# EAGLE library part NEO-F10N-00B (library NEO-F10N-00B)
GNSS / GPS Modules u-blox F10 GNSS module Flash, TCXO, SAW, LNA LCC, 12x16 mm, 250 pcs/reel Source: Datasheet <https://content.u-blox.com/sites/default/files/documents/NEO-F10N_DataSheet_UBX-23002117.pdf>
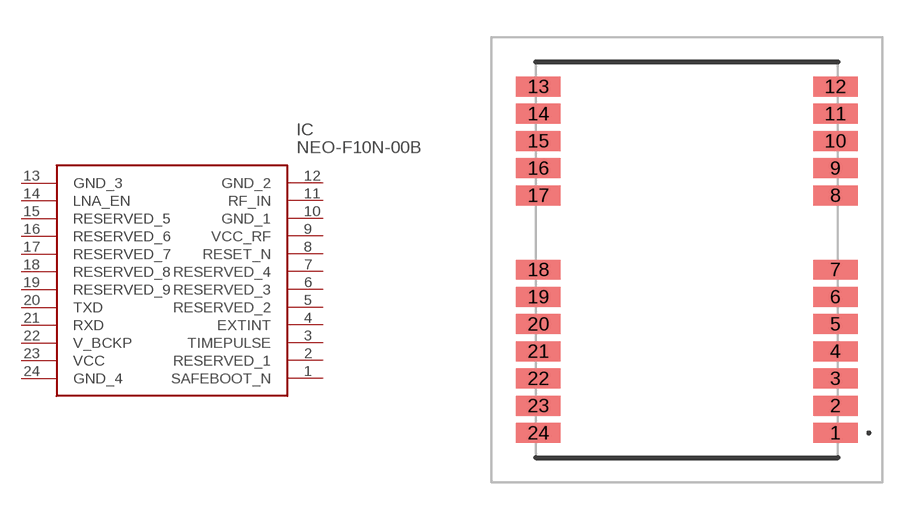
[diagram p0: symbol with the pads of NEOF10N00B; footprint NEOF10N00B]

Designator prefix IC

## NEO-F10N-00B (Description: GNSS / GPS Modules u-blox F10 GNSS module Flash, TCXO, SAW, LNA LCC, 12x16 mm, 250 pcs/reel; Height: 2.6mm; Manufacturer_Name: u-blox; Manufacturer_Part_Number: NEO-F10N-00B; Mouser_Part_Number: 377-NEO-F10N-00B; Mouser_Price-Stock: https://www.mouser.co.uk/ProductDetail/u-blox/NEO-F10N-00B?qs=Imq1NPwxi76uVH%2FItRhLgw%3D%3D)  [NEOF10N00B]
1  SAFEBOOT_N
2  RESERVED_1
3  TIMEPULSE
4  EXTINT
5  RESERVED_2
6  RESERVED_3
7  RESERVED_4
8  RESET_N
9  VCC_RF
10  GND_1
11  RF_IN
12  GND_2
13  GND_3
14  LNA_EN
15  RESERVED_5
16  RESERVED_6
17  RESERVED_7
18  RESERVED_8
19  RESERVED_9
20  TXD
21  RXD
22  V_BCKP
23  VCC
24  GND_4

## Footprint NEOF10N00B (pad centres in mm)
NEO-F10N-00B-4
smd 1.8 x 0.8: 1 6,-7; 2 6,-5.9; 3 6,-4.8; 4 6,-3.7; 5 6,-2.6; 6 6,-1.5; 7 6,-0.4; 8 6,2.6; 9 6,3.7; 10 6,4.8; 11 6,5.9; 12 6,7; 13 -6,7; 14 -6,5.9; 15 -6,4.8; 16 -6,3.7; 17 -6,2.6; 18 -6,-0.4; 19 -6,-1.5; 20 -6,-2.6; 21 -6,-3.7; 22 -6,-4.8; 23 -6,-5.9; 24 -6,-7